# Altium integrated library lib_samtec.IntLib: 1 symbol
Pins are listed as number, name and electrical type; pins without a type are passive.

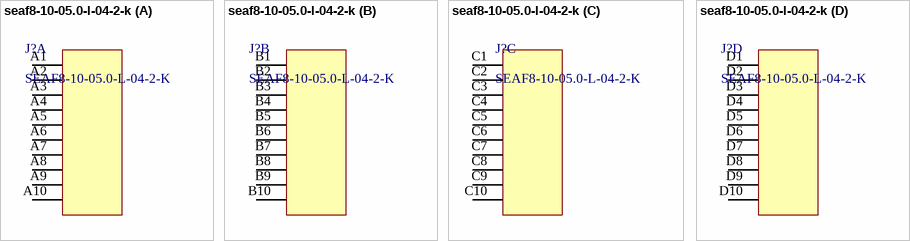
[diagram p0: symbol seaf8-10-05.0-l-04-2-k]

## seaf8-10-05.0-l-04-2-k
designator J?, comment SEAF8-10-05.0-L-04-2-K
0.80 mm SEARAY High-Speed High-Density Open-Pin-Field Array Socket
footprint SEAF8-10-05.0-L-04-2-K
part A pins: A1, A2, A3, A4, A5, A6, A7, A8, A9, A10
part B pins: B1, B2, B3, B4, B5, B6, B7, B8, B9, B10
part C pins: C1, C2, C3, C4, C5, C6, C7, C8, C9, C10
part D pins: D1, D2, D3, D4, D5, D6, D7, D8, D9, D10